# Altium schematic symbol library SRP1265WA-2R2M.SchLib: 1 symbol
Pins are listed as number, name and electrical type; pins without a type are passive.

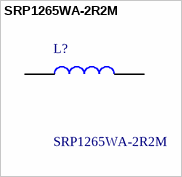
[diagram p0: symbol SRP1265WA-2R2M]

## SRP1265WA-2R2M
designator L?
2.2 H Shielded Wirewound Inductor 22 A 4.2mOhm Max Nonstandard FIXED IND 2.2UH 22A 4.2 MOHM SMD 13.5x12.5x6.4; Manufacturer_Name: Bourns; Geometry.Height: 6.5mm; Mouser Part Number: 652-SRP1265WA-2R2M; Mouser Price/Stock: https://www.mouser.co.uk/ProductDetail/Bourns/SRP1265WA-2R2M?qs=Li%252BoUPsLEnvRcUJ534J08A%3D%3D; Manufacturer_Part_Number: SRP1265WA-2R2M; Datasheet Link: http://www.bourns.com/docs/Product-Datasheets/SRP1265WA.pdf
footprint SRP1265WA2R2M
pins: 1, 2